# Altium schematic symbol library Schlib1.SchLib: 10 symbols
Pins are listed as number, name and electrical type; pins without a type are passive.

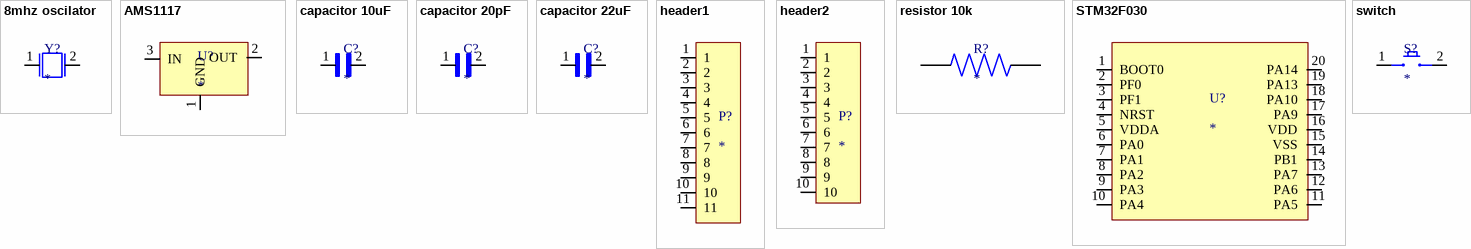
[diagram p0: symbols 8mhz oscilator to switch]

## 8mhz oscilator
designator Y?
footprint 8Mhz oscilator
pins: 1, 2

## AMS1117
designator U?
footprint AMS1117
pins: 1 GND, 2 OUT, 3 IN

## capacitor 10uF
designator C?
footprint 0805 package
pins: 1, 2

## capacitor 20pF
designator C?
footprint 0805 package
pins: 1, 2

## capacitor 22uF
designator C?
footprint 0805 package
pins: 1, 2

## header1
designator P?
footprint headers
pins: 1, 2, 3, 4, 5, 6, 7, 8, 9, 10, 11

## header2
designator P?
footprint headers 2
pins: 1, 2, 3, 4, 5, 6, 7, 8, 9, 10

## resistor 10k
designator R?
footprint 0805 package
pins: 1, 2

## STM32F030
designator U?
footprint TSSOP20 package
pins: 1 BOOT0, 2 PF0, 3 PF1, 4 NRST, 5 VDDA, 6 PA0, 7 PA1, 8 PA2, 9 PA3, 10 PA4, 11 PA5, 12 PA6, 13 PA7, 14 PB1, 15 VSS, 16 VDD, 17 PA9, 18 PA10, 19 PA13, 20 PA14

## switch
designator S?
footprint switch
pins: 1, 2